# Altium footprint library PCB.PcbLib: 224 footprints (part 13 of 14)
Each footprint in its own frame and in the unit in brackets; x right, y up, seen from the top. Pads: shape width x height; smd on the part's side, far side on the other; paste and mask are expansions set on the pad; w line width, h text height; cw(c..) or ccw(c..) is an arc to the next point about the centre after c.
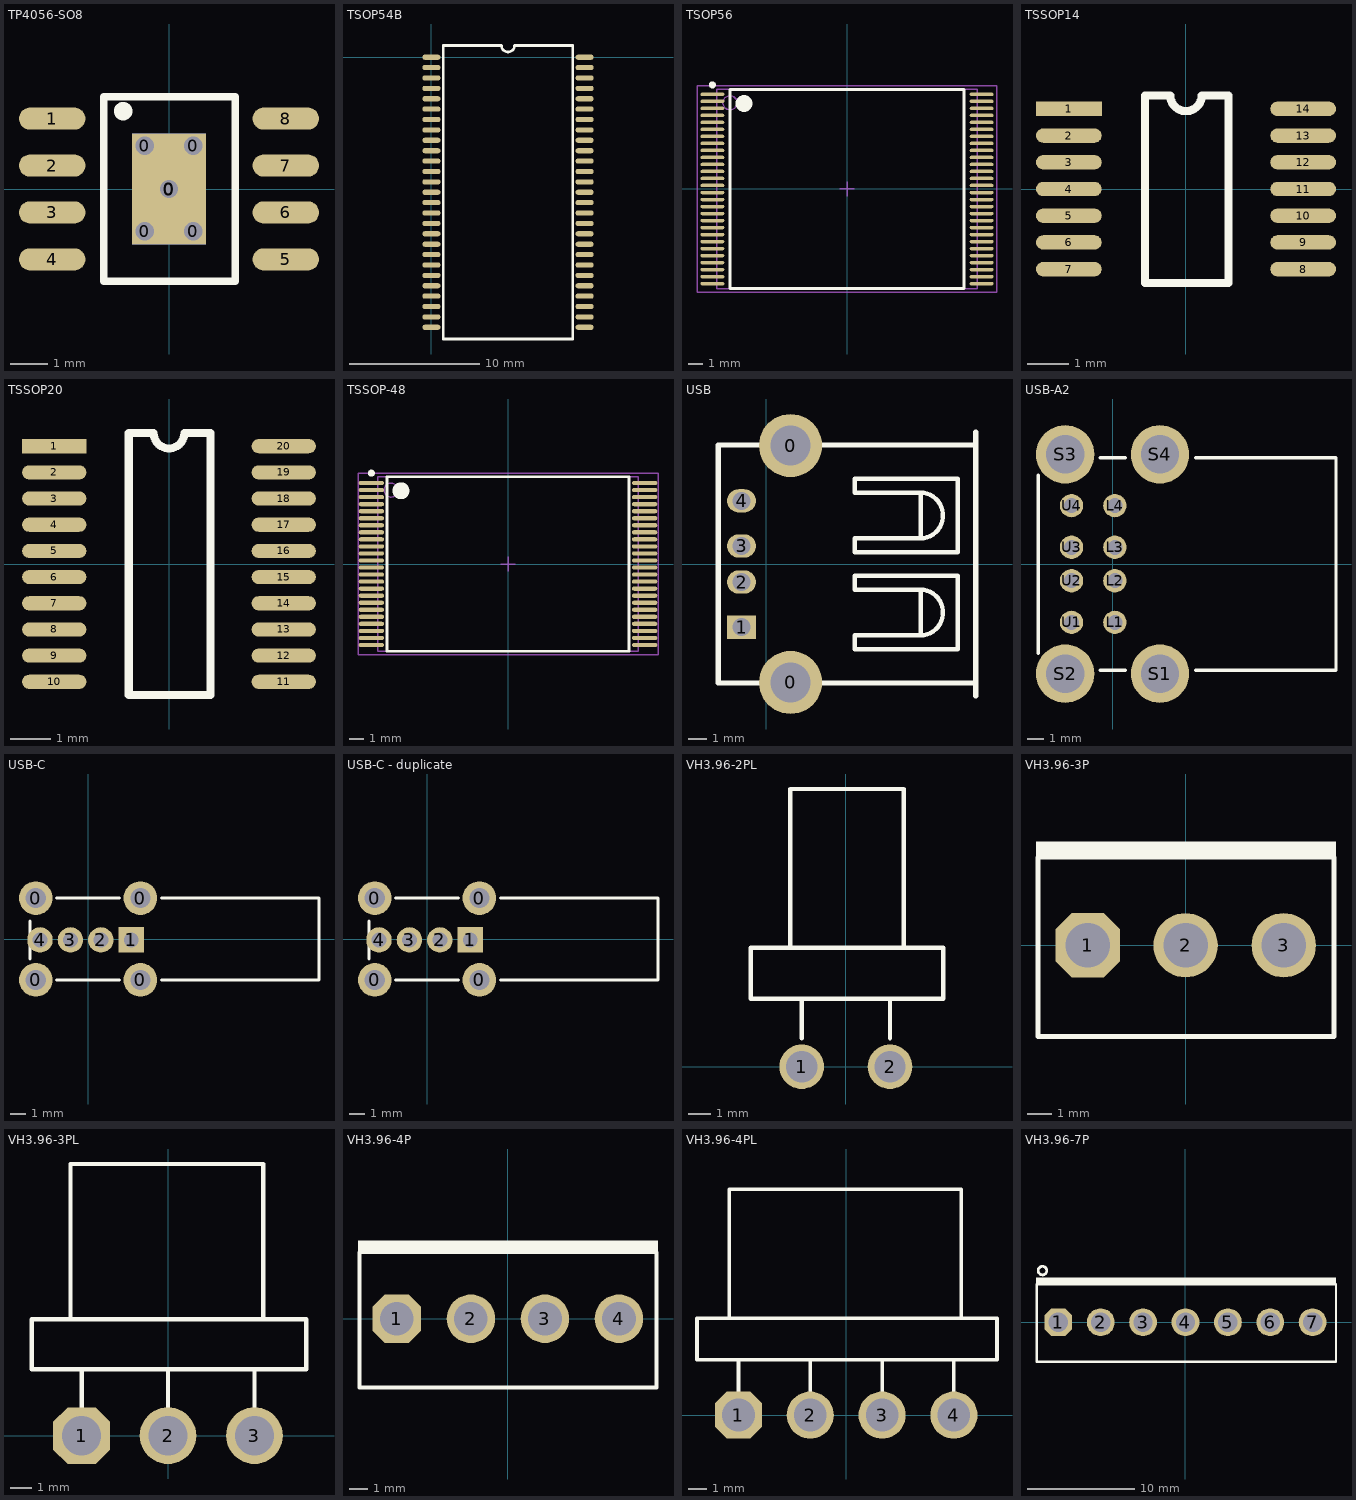
[diagram p12: the footprints below, top view; thin cyan lines are the x and y axes]

## TP4056-SO8 [mm] "SOIC, 8-Leads, Body 4.9x3.9mm, Pitch 1.27mm, IPC Medium Density"
height 1.75
pads (15):
  round 0.6 hole 0.5: 0(-0.66,-1.143) 0(-0.66,1.168) 0(0,0) 0(0.66,-1.143) 0(0.66,1.168)
  rect 2x3 smd: 0(0,0)
  rect 2x3 smd far side: 0(0,0)
  oval 1.8x0.6 smd: 1(-3.162,1.905) 2(-3.162,0.635) 3(-3.162,-0.635) 4(-3.162,-1.905) 5(3.162,-1.905) 6(3.162,-0.635) 7(3.162,0.635) 8(3.162,1.905)
Top Overlay:
  circle w0.25: c-1.243,2.108 r0.125
  lines w0.2: -1.765,-2.5 -1.765,2.5 1.791,2.5 1.791,-2.5 -1.765,-2.5

## TSOP54B [mm]
pads (54):
  oval 1.4x0.4 smd: 1(-0.002,0.002) 2(-0.002,-0.798) 3(-0.002,-1.598) 4(-0.002,-2.398) 5(-0.002,-3.198) 6(-0.002,-3.998) 7(-0.002,-4.798) 8(-0.002,-5.598) 9(-0.002,-6.398) 10(-0.002,-7.198) 11(-0.002,-7.998) 12(-0.002,-8.798) 13(-0.002,-9.598) 14(-0.002,-10.398) 15(-0.002,-11.198) 16(-0.002,-11.998) 17(-0.002,-12.798) 18(-0.002,-13.598) 19(-0.002,-14.398) 20(-0.002,-15.198) 21(-0.002,-15.998) 22(-0.002,-16.798) 23(-0.002,-17.598) 24(-0.002,-18.398) 25(-0.002,-19.198) 26(-0.002,-19.998) 27(-0.002,-20.798) 28(11.798,-20.798) 29(11.798,-19.998) 30(11.798,-19.198) 31(11.798,-18.398) 32(11.798,-17.598) 33(11.798,-16.798) 34(11.798,-15.998) 35(11.798,-15.198) 36(11.798,-14.398) 37(11.798,-13.598) 38(11.798,-12.798) 39(11.798,-11.998) 40(11.798,-11.198) 41(11.798,-10.398) 42(11.798,-9.598) 43(11.798,-8.798) 44(11.798,-7.998) 45(11.798,-7.198) 46(11.798,-6.398) 47(11.798,-5.598) 48(11.798,-4.798) 49(11.798,-3.998) 50(11.798,-3.198) 51(11.798,-2.398) 52(11.798,-1.598) 53(11.798,-0.798) 54(11.798,0.002)
Top Overlay:
  lines w0.2: 0.898,-21.698 10.898,-21.698 10.898,0.902 6.398,0.902 cw(c5.898,0.902) 5.398,0.902 0.898,0.902 0.898,-21.698

## TSOP56 [mm]
height 1.2
pads (56):
  oval 1.7x0.25 smd: 1(-9.6,6.75) 2(-9.6,6.25) 3(-9.6,5.75) 4(-9.6,5.25) 5(-9.6,4.75) 6(-9.6,4.25) 7(-9.6,3.75) 8(-9.6,3.25) 9(-9.6,2.75) 10(-9.6,2.25) 11(-9.6,1.75) 12(-9.6,1.25) 13(-9.6,0.75) 14(-9.6,0.25) 15(-9.6,-0.25) 16(-9.6,-0.75) 17(-9.6,-1.25) 18(-9.6,-1.75) 19(-9.6,-2.25) 20(-9.6,-2.75) 21(-9.6,-3.25) 22(-9.6,-3.75) 23(-9.6,-4.25) 24(-9.6,-4.75) 25(-9.6,-5.25) 26(-9.6,-5.75) 27(-9.6,-6.25) 28(-9.6,-6.75) 29(9.6,-6.75) 30(9.6,-6.25) 31(9.6,-5.75) 32(9.6,-5.25) 33(9.6,-4.75) 34(9.6,-4.25) 35(9.6,-3.75) 36(9.6,-3.25) 37(9.6,-2.75) 38(9.6,-2.25) 39(9.6,-1.75) 40(9.6,-1.25) 41(9.6,-0.75) 42(9.6,-0.25) 43(9.6,0.25) 44(9.6,0.75) 45(9.6,1.25) 46(9.6,1.75) 47(9.6,2.25) 48(9.6,2.75) 49(9.6,3.25) 50(9.6,3.75) 51(9.6,4.25) 52(9.6,4.75) 53(9.6,5.25) 54(9.6,5.75) 55(9.6,6.25) 56(9.6,6.75)
Top Overlay:
  circle w0.6: c-7.35,6.1 r0.3
  circle w0.25: c-9.6,7.425 r0.125
  lines w0.2: -8.35,-7.1 8.35,-7.1 8.35,7.1 -8.35,7.1 -8.35,-7.1
Mechanical 13:
  circle w0.1: c-8.35,6.15 r0.5
  lines w0.1: -9.3,-7.1 9.3,-7.1 9.3,7.1 -9.3,7.1 -9.3,-7.1
Mechanical 15:
  lines w0.1: -0.5,0 0.5,0 ; 0,-0.5 0,0.5 ; -10.7,-7.35 10.7,-7.35 10.7,7.35 -10.7,7.35 -10.7,-7.35
3D body: height 1.2, standoff 0.05, extent -9.3,-7.1 9.3,7.1

## TSSOP14 [mm]
pads (14):
  rect 1.6x0.35 smd: 1(-2.85,1.95)
  oval 1.6x0.35 smd: 2(-2.85,1.3) 3(-2.85,0.65) 4(-2.85,0) 5(-2.85,-0.65) 6(-2.85,-1.3) 7(-2.85,-1.95) 8(2.85,-1.95) 9(2.85,-1.3) 10(2.85,-0.65) 11(2.85,0) 12(2.85,0.65) 13(2.85,1.3) 14(2.85,1.95)
Top Overlay:
  lines w0.2: -0.999,-2.286 1.033,-2.286 1.033,2.275 0.381,2.275 cw(c0,2.275) -0.381,2.275 -0.999,2.275 -0.999,-2.286

## TSSOP20 [mm]
pads (20):
  rect 1.6x0.35 smd: 1(-2.85,2.925)
  oval 1.6x0.35 smd: 2(-2.85,2.275) 3(-2.85,1.625) 4(-2.85,0.975) 5(-2.85,0.325) 6(-2.85,-0.325) 7(-2.85,-0.975) 8(-2.85,-1.625) 9(-2.85,-2.275) 10(-2.85,-2.925) 11(2.85,-2.925) 12(2.85,-2.275) 13(2.85,-1.625) 14(2.85,-0.975) 15(2.85,-0.325) 16(2.85,0.325) 17(2.85,0.975) 18(2.85,1.625) 19(2.85,2.275) 20(2.85,2.925)
Top Overlay:
  lines w0.2: -0.999,-3.25 -0.999,3.25 -0.381,3.25 ccw(c0,3.25) 0.381,3.25 1.033,3.25 1.033,-3.25 -0.999,-3.25

## TSSOP-48 [mm] "TSSOP, 48-Leads, Body 12.4x18.5mm (max), Pitch 0.50mm, IPC Medium Density"
height 1.2
pads (48):
  oval 1.8x0.3 smd: 1(-9.7,5.75) 2(-9.7,5.25) 3(-9.7,4.75) 4(-9.7,4.25) 5(-9.7,3.75) 6(-9.7,3.25) 7(-9.7,2.75) 8(-9.7,2.25) 9(-9.7,1.75) 10(-9.7,1.25) 11(-9.7,0.75) 12(-9.7,0.25) 13(-9.7,-0.25) 14(-9.7,-0.75) 15(-9.7,-1.25) 16(-9.7,-1.75) 17(-9.7,-2.25) 18(-9.7,-2.75) 19(-9.7,-3.25) 20(-9.7,-3.75) 21(-9.7,-4.25) 22(-9.7,-4.75) 23(-9.7,-5.25) 24(-9.7,-5.75) 25(9.7,-5.75) 26(9.7,-5.25) 27(9.7,-4.75) 28(9.7,-4.25) 29(9.7,-3.75) 30(9.7,-3.25) 31(9.7,-2.75) 32(9.7,-2.25) 33(9.7,-1.75) 34(9.7,-1.25) 35(9.7,-0.75) 36(9.7,-0.25) 37(9.7,0.25) 38(9.7,0.75) 39(9.7,1.25) 40(9.7,1.75) 41(9.7,2.25) 42(9.7,2.75) 43(9.7,3.25) 44(9.7,3.75) 45(9.7,4.25) 46(9.7,4.75) 47(9.7,5.25) 48(9.7,5.75)
Top Overlay:
  circle w0.25: c-9.7,6.45 r0.125
  circle w0.6: c-7.6,5.2 r0.3
  lines w0.2: -8.6,-6.2 -8.6,6.2 8.6,6.2 8.6,-6.2 -8.6,-6.2
Mechanical 13:
  circle w0.1: c-8.3,5.25 r0.5
  lines w0.1: -9.25,-6.2 -9.25,6.2 9.25,6.2 9.25,-6.2 -9.25,-6.2
Mechanical 15:
  lines w0.1: -0.5,0 0.5,0 ; 0,-0.5 0,0.5 ; -10.65,-6.45 -10.65,6.45 10.65,6.45 10.65,-6.45 -10.65,-6.45
3D body: height 1.2, standoff 0.25, extent -9.25,-6.2 9.25,6.2

## USB [mm]
pads (6):
  round 3.5 hole 2.2: 0(1.36,-6.57) 0(1.36,6.57)
  rect 1.6x1.3 hole 1: 1(-1.36,-3.5)
  oval 1.6x1.3 hole 1: 2(-1.36,-1) 3(-1.36,1) 4(-1.36,3.5)
Top Overlay:
  lines w0.25: 8.592,-3.912 8.592,-1.473 ; 8.592,1.473 8.592,3.912 ; 10.624,-0.66 4.909,-0.66 4.909,-1.422 8.561,-1.422 cw(c8.548,-2.692) 8.561,-3.962 4.909,-3.962 4.909,-4.724 10.64,-4.724 10.64,-0.66 ; 10.624,4.724 4.909,4.724 4.909,3.962 8.561,3.962 cw(c8.548,2.692) 8.561,1.422 4.909,1.422 4.909,0.66 10.64,0.66 10.64,4.724
  lines w0.3: 11.64,-7.3 11.64,7.3 ; 11.64,-6.6 -2.66,-6.6 -2.66,6.6 11.64,6.6

## USB-A2 [mm]
pads (12):
  round 1.4 hole 0.9: L1(0.14,-3.5) L2(0.14,-1) L3(0.14,1) L4(0.14,3.5) U1(-2.46,-3.5) U2(-2.46,-1) U3(-2.46,1) U4(-2.46,3.5)
  round 3.5 hole 2.3: S1(2.84,-6.57) S2(-2.84,-6.57) S3(-2.84,6.57) S4(2.84,6.57)
Top Overlay:
  lines w0.2: -4.46,-5.34 -4.46,5.33 ; -0.73,-6.375 0.77,-6.375 ; -0.73,6.375 0.77,6.375 ; 4.97,-6.375 13.39,-6.375 13.39,6.375 4.97,6.375

## USB-C [mm]
pads (8):
  round 2.25 hole 1.35: 0(-3.492,-2.73) 0(-3.492,2.73) 0(3.492,-2.73) 0(3.492,2.73)
  rect 1.7x1.7 hole 1: 1(2.883,-0.064)
  round 1.7 hole 1: 2(0.851,-0.064) 3(-1.181,-0.064) 4(-3.213,-0.064)
Top Overlay:
  lines w0.2: -3.873,-1.333 -3.873,1.206 ; -2.095,-2.73 2.095,-2.73 ; -2.095,2.73 2.095,2.73 ; 4.889,-2.73 15.43,-2.73 15.43,2.73 4.889,2.73

## USB-C - duplicate [mm]
pads (8):
  round 2.25 hole 1.35: 0(-3.492,-2.73) 0(-3.492,2.73) 0(3.492,-2.73) 0(3.492,2.73)
  rect 1.7x1.7 hole 1: 1(2.883,-0.064)
  round 1.7 hole 1: 2(0.851,-0.064) 3(-1.181,-0.064) 4(-3.213,-0.064)
Top Overlay:
  lines w0.2: -3.873,-1.333 -3.873,1.206 ; -2.095,-2.73 2.095,-2.73 ; -2.095,2.73 2.095,2.73 ; 4.889,-2.73 15.43,-2.73 15.43,2.73 4.889,2.73

## VH3.96-2PL [mm]
pads (2):
  round 2 hole 1.4: 1(-1.98,0) 2(1.98,0)
Top Overlay:
  lines w0.2: -2.488,5.334 -2.488,12.446 2.592,12.446 2.592,5.334 ; -1.98,1.27 -1.98,3.048 ; 1.98,1.27 1.98,3.048 ; -4.266,3.048 -4.266,5.334 4.37,5.334 4.37,3.048 -4.266,3.048

## VH3.96-3P [mm]
pads (3):
  oct 2.6x2.6 hole 1.8: 1(-3.96,0)
  round 2.6 hole 1.8: 2(0,0) 3(3.96,0)
Top Overlay:
  rectangle: -6.043,3.556 6.073,4.191
  lines w0.2: -5.967,-3.683 5.997,-3.683 5.997,3.556 -5.967,3.556 -5.967,-3.683

## VH3.96-3PL [mm]
pads (3):
  oct 2.6x2.6 hole 1.8: 1(-3.96,0)
  round 2.6 hole 1.8: 2(0,0) 3(3.96,0)
Top Overlay:
  lines w0.2: -4.468,5.334 -4.468,12.446 4.318,12.446 ; -3.96,1.27 -3.96,3.048 ; 0,1.27 0,3.048 ; 4.356,5.334 4.356,12.446 ; -6.246,3.048 -6.246,5.334 6.336,5.334 6.336,3.048 -6.246,3.048 ; 3.96,1.27 3.96,3.048 3.96,1.27

## VH3.96-4P [mm]
pads (4):
  oct 2.6x2.6 hole 1.8: 1(-5.94,0)
  round 2.6 hole 1.8: 2(-1.98,0) 3(1.98,0) 4(5.94,0)
Top Overlay:
  rectangle: -8.023,3.556 8.03,4.191
  lines w0.2: -7.947,-3.683 -7.947,3.556 7.954,3.556 7.954,-3.683 -7.947,-3.683

## VH3.96-4PL [mm]
height 1.4
pads (4):
  oct 2.6x2.6 hole 1.8: 1(-5.94,0)
  round 2.6 hole 1.8: 2(-1.98,0) 3(1.98,0) 4(5.94,0)
Top Overlay:
  lines w0.2: -6.448,5.334 -6.448,12.446 6.336,12.446 6.336,5.334 ; -5.94,1.27 -5.94,3.048 ; -1.98,1.27 -1.98,3.048 ; 1.98,1.27 1.98,3.048 ; 5.94,1.27 5.94,3.048 ; -8.226,3.048 8.316,3.048 8.316,5.334 -8.226,5.334 -8.226,3.048

## VH3.96-7P [mm]
pads (7):
  oct 2.6x2.6 hole 1.8: 1(-11.88,0)
  round 2.6 hole 1.8: 2(-7.92,0) 3(-3.96,0) 4(0,0) 5(3.96,0) 6(7.92,0) 7(11.88,0)
Top Overlay:
  circle w0.254: c-13.356,4.826 r0.402
  rectangle: -13.963,3.556 14.06,4.191
  lines w0.2: -13.887,-3.683 -13.887,3.556 14.06,3.556 14.06,-3.683 -13.887,-3.683